# Altium footprint library TO_DPAK.PcbLib: 24 footprints (part 1 of 2)
Each footprint in its own frame and in the unit in brackets; x right, y up, seen from the top. Pads: shape width x height; smd on the part's side, far side on the other; paste and mask are expansions set on the pad; w line width, h text height; cw(c..) or ccw(c..) is an arc to the next point about the centre after c.
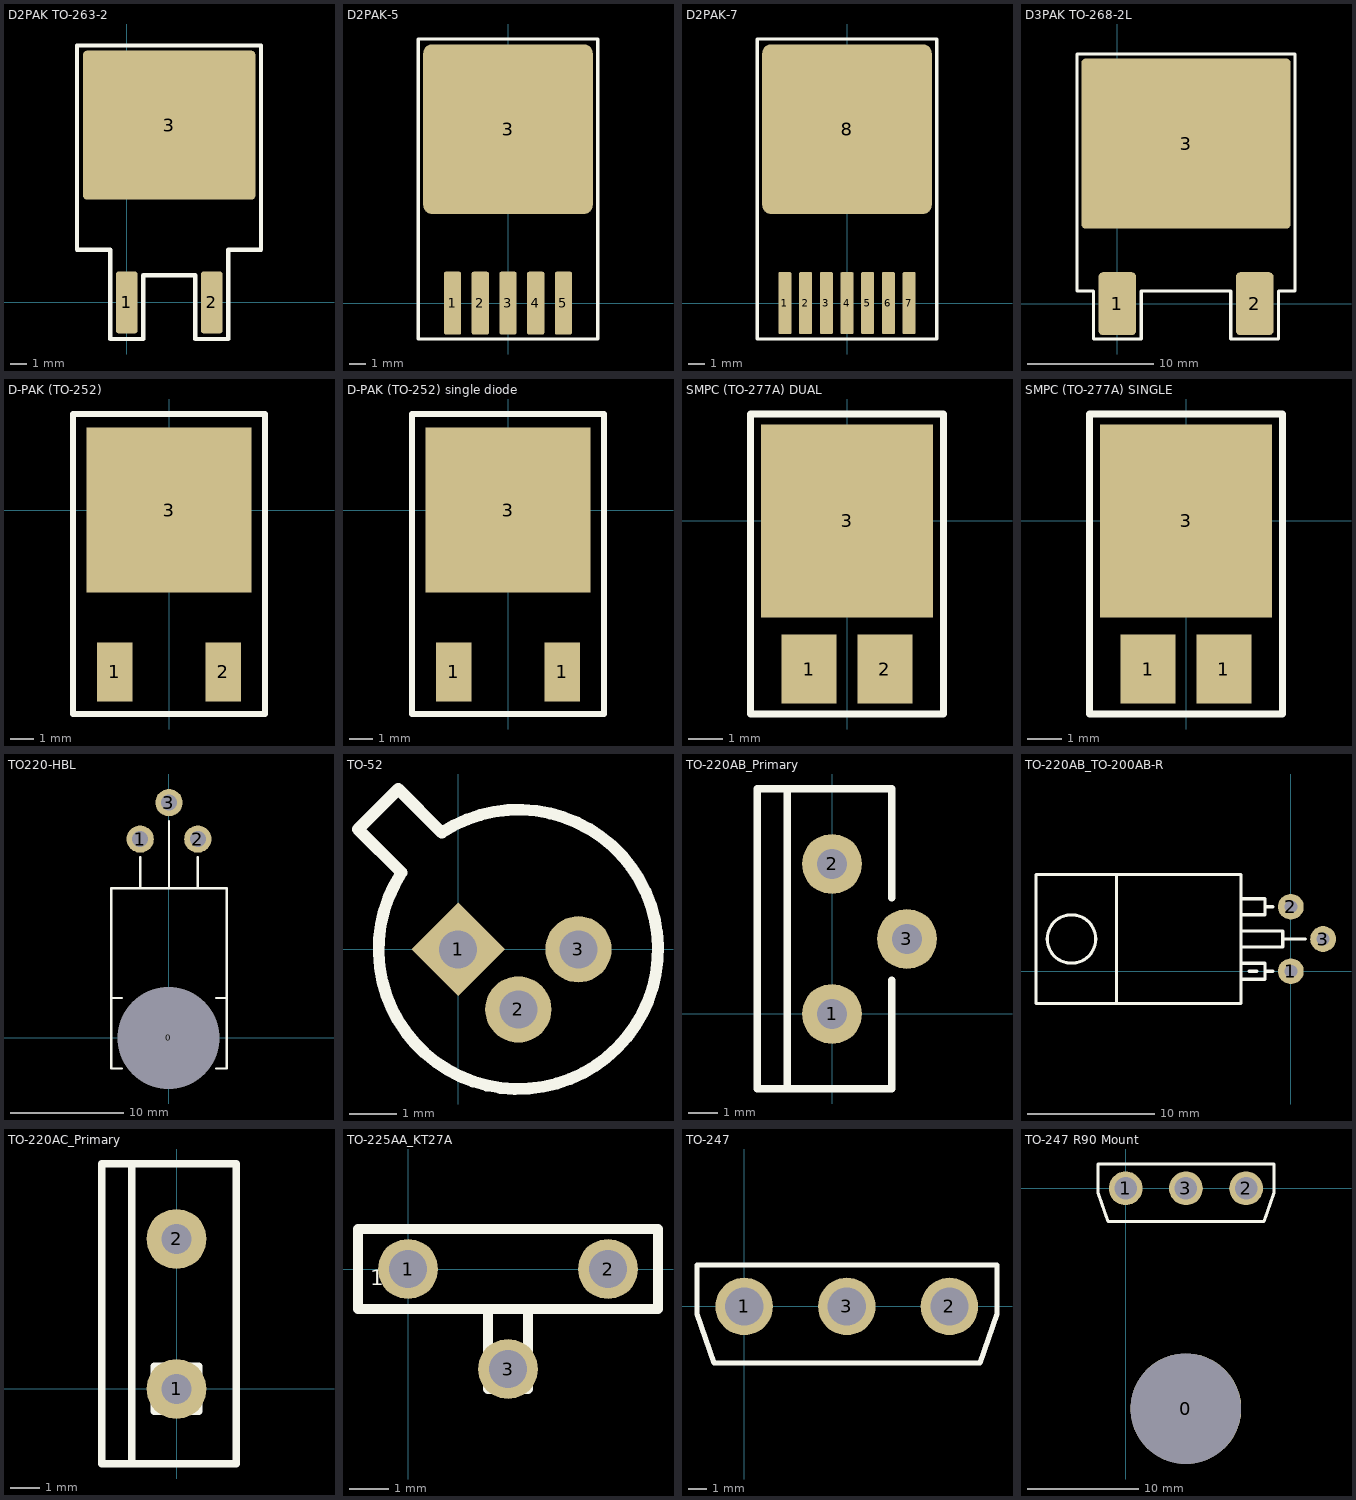
[diagram p0: the footprints below, top view; thin cyan lines are the x and y axes]

## D2PAK TO-263-2 [mm]
pads (3):
  rrect25% 1.3x3.7 smd: 1(0,0) 2(5.08,0)
  rrect5% 10.3x8.9 smd: 3(2.54,10.6)
Top Overlay:
  lines w0.254: -2.972,3.15 -2.972,15.367 8.026,15.367 8.026,3.15 6.071,3.15 6.071,-2.184 4.089,-2.184 4.089,1.626 0.991,1.626 0.991,-2.184 -0.991,-2.184 -0.991,3.15 -2.972,3.15
Top Assembly:
  text ".Designator" at -2.458,4.747 h1
3D body "SW3dPS-DPAK.STEP": height 4.79, standoff -0.22, extent -2.525,-1.357 7.635,13.907

## D2PAK-5 [mm]
pads (6):
  rrect20% 1.05x3.85 smd: 1(-3.4,0) 2(-1.7,0) 3(0,0) 4(1.7,0) 5(3.4,0)
  rrect10% 10.4x10.4 smd: 3(0,10.668)
Top Overlay:
  lines w0.2: 5.5,-2.2 -5.5,-2.2 -5.5,16.2 5.5,16.2 5.5,-2.2 ; 5.5,-2.2 5.5,-2.2
Top Assembly:
  text ".Designator" at -4.998,9.667 h1
3D body "SW3dPS-TO263-5.STEP": height 4.78, standoff -0.02, extent -5,-1.37 5,14.3

## D2PAK-7 [mm]
pads (8):
  rrect20% 0.8x3.8 smd: 1(-3.81,0) 2(-2.54,0) 3(-1.27,0) 4(0,0) 5(1.27,0) 6(2.54,0) 7(3.81,0)
  rrect10% 10.4x10.4 smd: 8(0,10.668)
Top Overlay:
  lines w0.2: 5.5,-2.2 5.5,16.2 -5.5,16.2 -5.5,-2.2 5.5,-2.2 ; 5.5,-2.2 5.5,-2.2
Top Assembly:
  text ".Designator" at -4.998,9.667 h1
3D body "User Library-TO263-7-1-1.STEP": height 4.78, standoff -0.02, extent -5,-1.37 5,14.3

## D3PAK TO-268-2L [mm]
pads (3):
  rrect25% 3x5 smd: 1(0,0) 2(10.9,0)
  rrect5% 16.6x13.5 smd: 3(5.45,12.7)
Top Overlay:
  lines w0.254: -3.2,1 -3.2,19.8 14.1,19.8 14.1,1 12.8,1 12.8,-2.8 9,-2.8 9,1 1.9,1 1.9,-2.8 -1.9,-2.8 -1.9,1 -3.2,1
Top Assembly:
  text ".Designator" at 0.502,4.667 h1
3D body "User Library-TO545P1905X510_HS-3.STEP": height 5.1, standoff 0, extent -2.6,-1.725 13.402,17.325

## D-PAK (TO-252) [mm]
pads (3):
  rect 1.5x2.5 smd: 1(-2.3,-6.85) 2(2.3,-6.85)
  rect 7x7 smd: 3(0,0)
Top Overlay:
  lines w0.254: -4.064,-8.636 4.064,-8.636 4.064,4.064 -4.064,4.064 -4.064,-8.636
Top Assembly:
  text ".Designator" at -4.998,-0.333 h1
3D body "SW3dPS-DPAK-1.STEP": height 2.44, standoff 0.03, extent -3.27,-7.35 3.27,2.588

## D-PAK (TO-252) single diode [mm]
pads (3):
  rect 1.5x2.5 smd: 1(-2.3,-6.85) 1(2.3,-6.85)
  rect 7x7 smd: 3(0,0)
Top Overlay:
  lines w0.254: -4.064,-8.636 4.064,-8.636 4.064,4.064 -4.064,4.064 -4.064,-8.636
Top Assembly:
  text ".Designator" at -4.998,-0.333 h1
3D body "SW3dPS-DPAK-1.STEP": height 2.44, standoff 0.03, extent -3.27,-7.35 3.27,2.588

## SMPC (TO-277A) DUAL [mm]
pads (3):
  rect 1.6x2 smd: 1(-1.1,-4.3) 2(1.1,-4.3)
  rect 5x5.6 smd: 3(0,0)
Top Overlay:
  lines w0.2: -2.8,-5.6 -2.8,3.1 2.8,3.1 2.8,-5.6 -2.8,-5.6
Top Assembly:
  text ".Designator" at -4.998,-0.333 h1
3D body "User Library-TO-277A(SMPC).STEP": height 1.25, standoff 0.05, extent -2.375,-4.65 2.375,2

## SMPC (TO-277A) SINGLE [mm]
pads (3):
  rect 1.6x2 smd: 1(-1.1,-4.3) 1(1.1,-4.3)
  rect 5x5.6 smd: 3(0,0)
Top Overlay:
  lines w0.2: -2.8,-5.6 2.8,-5.6 2.8,3.1 -2.8,3.1 -2.8,-5.6
Top Assembly:
  text ".Designator" at -4.998,-0.333 h1
3D body "User Library-TO-277A(SMPC).STEP": height 1.25, standoff 0.05, extent -2.375,-4.65 2.375,2

## TO220-HBL [mm]
pads (4):
  round 1 hole 9 unplated: 0(0,0)
  round 2.4 hole 1.4: 1(-2.5,17.5) 2(2.58,17.5) 3(0.04,20.71)
Top Overlay:
  lines w0.2: -5.04,3.504 -4.1,3.504 ; -4.1,-2.705 -5.04,-2.705 -5.04,-0.588 -5.04,0.682 -5.04,13.17 5.12,13.17 5.12,3.222 5.12,0.682 5.12,-0.588 5.12,-2.705 4.2,-2.705 ; -2.5,13.17 -2.5,15.9 ; 0.04,13.297 0.04,19.1 ; 2.58,13.17 2.58,15.9 ; 4.2,3.504 5.12,3.504
Top Assembly:
  text ".Designator" at -4.998,11.167 h1
3D body "User Library-Generic TO-220.STEP": height 5.93, standoff 1.39, extent -4.96,-2.8 4.96,20.863

## TO-52 [mm]
pads (3):
  rect 1.4x1.4 hole 0.8 rot 45: 1(0,0)
  round 1.4 hole 0.8: 2(1.27,-1.27) 3(2.54,0)
Top Overlay:
  lines w0.25: -1.197,1.618 -2.116,2.537 -1.267,3.386 -0.348,2.467 ; -1.196,1.62 ccw(c1.27,0) -0.345,2.468
Top Assembly:
  text ".Designator" at 6.05,-0.115 h1

## TO-220AB_Primary [mil]
pads (3):
  round 80 hole 40: 1(0,0) 2(0,200) 3(100,100)
Top Overlay:
  lines w10: -60,-100 -60,300 ; 80,45 80,-100 -100,-100 -100,300 80,300 80,155
Top Assembly:
  text ".Designator" at 216.29,86.88 h39.37

## TO-220AB_TO-200AB-R [mil]
pads (3):
  round 80 hole 40: 1(0,0) 2(0,200) 3(100,100)
Top Overlay:
  circle w9.84: c-680,100 r75
  lines w9.84: -155,-25 -80,-25 -80,25 -155,25 ; -155,75 -25,75 -25,125 -155,125 ; -155,175 -80,175 -80,225 -155,225 ; -80,0 -55,0 ; -80,200 -55,200 ; -25,100 45,100 ; -155,-100 -790,-100 -790,300 -155,300 ; -155,-100 -540,-100 -540,300 -155,300 ; -155,-100 -155,300
  lines w10: -130,0 -105,0
Top Assembly:
  text ".Designator" at -128.67,86.88 h39.37

## TO-220AC_Primary [mil]
pads (2):
  round 80 hole 40: 1(0,0) 2(0,200)
Top Overlay:
  lines w10: -60,-100 -60,300 ; -100,-100 80,-100 80,300 -100,300 -100,-100 ; -30,-30 30,-30 30,30 -30,30 -30,-30
Top Assembly:
  text ".Designator" at 186.79,86.88 h39.37

## TO-225AA_KT27A [mil]
pads (3):
  round 60 hole 38: 1(0,0) 2(200,0) 3(100,-100)
Top Overlay:
  lines w10: 80,-40 80,-120 120,-120 120,-40 ; -50,-40 250,-40 250,40 -50,40 -50,-40
  text "1" at -37.89,-16.48 h15.62
Top Assembly:
  text ".Designator" at 296.79,-57.62 h39.37

## TO-247 [mil]
pads (3):
  round 120 hole 80: 1(0,0) 2(428.35,0) 3(214.17,0)
Top Overlay:
  lines w10: -98.43,-15.75 -62.99,-118.11 492.13,-118.11 527.56,-15.75 527.56,86.61 -98.43,86.61 -98.43,-15.75
Top Assembly:
  text ".Designator" at 411.35,-28.87 h39.37
3D body "SW3dPS-TO-247.STEP": height 942.28, standoff -477.72, extent -84.45,-104.33 515.55,75.67

## TO-247 R90 Mount [mil]
pads (4):
  round 393.7 hole 393.7 unplated: 0(214.17,-783.46)
  round 120 hole 80: 1(0,0) 2(428.35,0) 3(214.17,0)
Top Overlay:
  lines w10: -98.43,-15.75 -98.43,86.61 527.56,86.61 527.56,-15.75 492.13,-118.11 -62.99,-118.11 -98.43,-15.75
Top Assembly:
  text ".Designator" at 411.35,-459.47 h39.37